# EAGLE library part UC_ATMEGA16U2 (library fab_new)
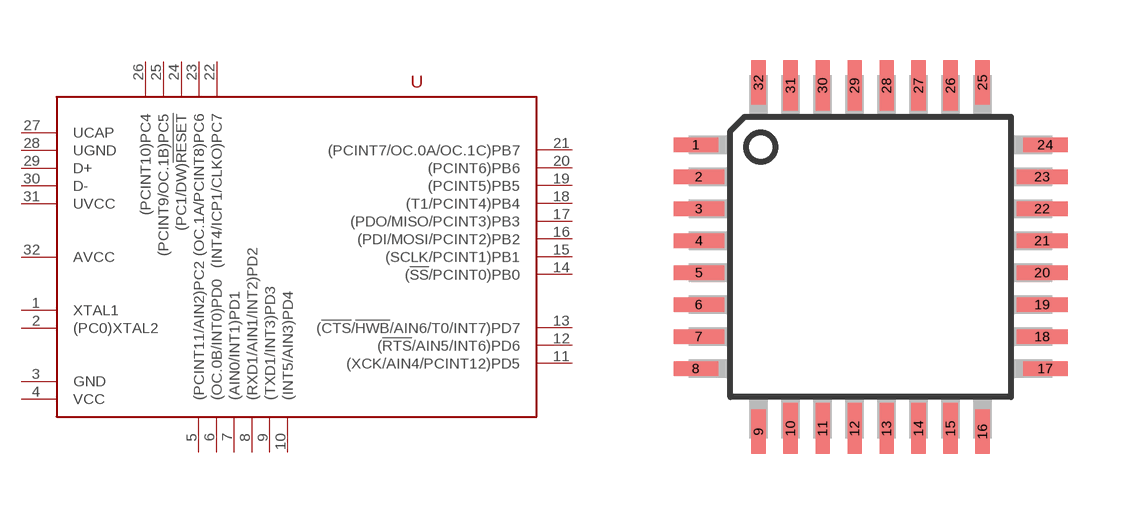
[diagram p13: symbol with the pads of TQFP32-08THIN; footprint TQFP32-08THIN]

Designator prefix -

## UC_ATMEGA16U2-TQ  [TQFP32-08THIN]
1  XTAL1
2  (PC0)XTAL2
3  GND
4  VCC
5  (PCINT11/AIN2)PC2
6  (OC.0B/INT0)PD0
7  (AIN0/INT1)PD1
8  (RXD1/AIN1/INT2)PD2
9  (TXD1/INT3)PD3
10  (INT5/AIN3)PD4
11  (XCK/AIN4/PCINT12)PD5
12  (!RTS!/AIN5/INT6)PD6
13  (!CTS!/!HWB!/AIN6/T0/INT7)PD7
14  (!SS!/PCINT0)PB0
15  (SCLK/PCINT1)PB1
16  (PDI/MOSI/PCINT2)PB2
17  (PDO/MISO/PCINT3)PB3
18  (T1/PCINT4)PB4
19  (PCINT5)PB5
20  (PCINT6)PB6
21  (PCINT7/OC.0A/OC.1C)PB7
22  (INT4/ICP1/CLKO)PC7
23  (OC.1A/PCINT8)PC6
24  (PC1/DW)!RESET
25  (PCINT9/OC.1B)PC5
26  (PCINT10)PC4
27  UCAP
28  UGND
29  D+
30  D-
31  UVCC
32  AVCC

## Footprint TQFP32-08THIN (pad centres in mm)
smd 1.118 x 0.356: 1 -4.369,2.8; 8 -4.369,-2.8; 17 4.369,-2.8; 24 4.369,2.8
smd 1.27 x 0.356: 2 -4.293,2; 3 -4.293,1.2; 4 -4.293,0.4; 5 -4.293,-0.4; 6 -4.293,-1.2; 7 -4.293,-2; 18 4.293,-2; 19 4.293,-1.2; 20 4.293,-0.4; 21 4.293,0.4; 22 4.293,1.2; 23 4.293,2
smd 0.356 x 1.118: 9 -2.8,-4.369; 16 2.8,-4.369; 25 2.8,4.369; 32 -2.8,4.369
smd 0.356 x 1.27: 10 -2,-4.293; 14 1.2,-4.293; 15 2,-4.293; 26 2,4.293; 27 1.2,4.293; 31 -2,4.293
smd 0.35 x 1.27: 11 -1.2,-4.293; 12 -0.4,-4.293; 13 0.4,-4.293; 28 0.4,4.293; 29 -0.4,4.293; 30 -1.2,4.293